# EAGLE library part M20-9980346 (library CONNECTORs)
Board-To-Board Connector, 2.54 mm, 6 Contacts, Header, M20 Series, Through Hole, 2 Rows
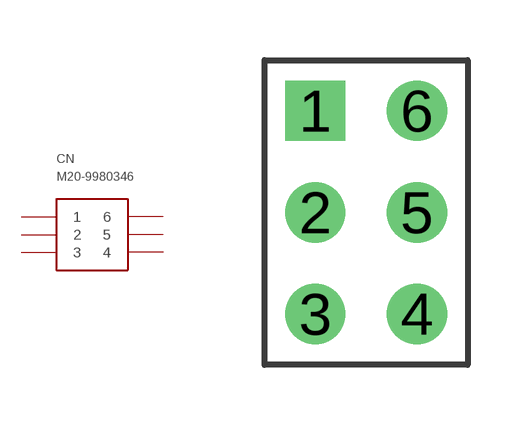
[diagram p35: symbol with the pads of 2X3HEADER; footprint 2X3HEADER]

Designator prefix CN

## M20-9980346 (FARNELL: 1022231; PRICE_PER: 0.135; VALUE: 2X3PIN MALE)  [2X3HEADER]
1  1
2  2
3  3
4  4
5  5
6  6

## Footprint 2X3HEADER (pad centres in mm)
drill 1 pad 1.5 square: 1 -1.27,2.54
drill 1 pad 1.5: 2 -1.27,0; 3 -1.27,-2.54; 4 1.27,-2.54; 5 1.27,0; 6 1.27,2.54